# EAGLE library part 24LC512-I/MF (library minne)
512K I2C CMOS Serial EEPROM
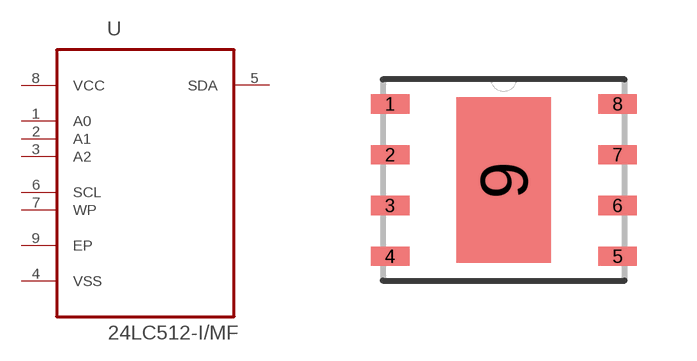
[diagram p0: symbol with the pads of DFN500X600X95-9N; footprint DFN500X600X95-9N]

Designator prefix -

## 24LC512-I/MF (DESCRIPTION: EEPROM; MPN: 24LC512-I/MF; OC_FARNELL: 1331333; OC_NEWARK: 89C9812; PACKAGE: DFN-8; SUPPLIER: Microchip)  [DFN500X600X95-9N]
1  A0  in
2  A1  in
3  A2  in
4  VSS  pas
5  SDA
6  SCL  in
7  WP  in
8  VCC  pwr
9  EP  pas

## Footprint DFN500X600X95-9N (pad centres in mm)
smd 0.965 x 0.483: 1 -2.845,1.905; 2 -2.845,0.635; 3 -2.845,-0.635; 4 -2.845,-1.905; 5 2.845,-1.905; 6 2.845,-0.635; 7 2.845,0.635; 8 2.845,1.905
smd 2.362 x 4.14: 9 0,0